# Altium schematic symbol library PJT138K_R1_00001.SchLib: 1 symbol
Pins are listed as number, name and electrical type; pins without a type are passive.

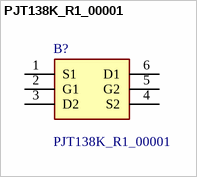
[diagram p0: symbol PJT138K_R1_00001]

## PJT138K_R1_00001
designator B?
MOSFET 50V N-Channel Enhancement Mode MOSFETESD Protected; Manufacturer_Name: PANJIT; Geometry.Height: 1.1mm; Mouser Part Number: 241-PJT138K_R1_00001; Mouser Price/Stock: https://www.mouser.co.uk/ProductDetail/Panjit/PJT138K_R1_00001?qs=sPbYRqrBIVkfxOi4sYJhZg%3D%3D; Manufacturer_Part_Number: PJT138K_R1_00001; Datasheet Link: https://www.mouser.de/ProductDetail/Panjit/PJT138K_R1_00001?qs=sPbYRqrBIVkfxOi4sYJhZg%3D%3D
footprint PJT138K_R1_00001
pins: 1 S1, 2 G1, 3 D2, 4 S2, 5 G2, 6 D1